# Altium integrated library SAMTEC-FTS-103-01-X-S.IntLib: 1 symbol
Pins are listed as number, name and electrical type; pins without a type are passive.

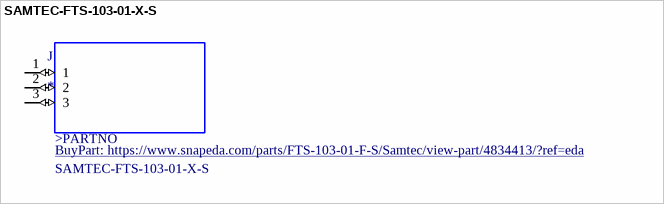
[diagram p0: symbol SAMTEC-FTS-103-01-X-S]

## SAMTEC-FTS-103-01-X-S
designator J
Connector Header Surface Mount 3 position 0.050 (1.27mm); MF: Samtec; MP: FTS-103-01-F-S; Availability: Bad; Value: *; Toby_UK-Purchase-URL: https://snapeda.com/shop?store=Toby+UK&id=4834413; SnapEDA_Link: https://www.snapeda.com/parts/FTS-103-01-F-S/Samtec/view-part/4834413/?ref=snap; Price: None; Package: None; BuyPart: https://www.snapeda.com/parts/FTS-103-01-F-S/Samtec/view-part/4834413/?ref=eda
footprint SAMTEC-FTS-103-01-X-S
pins: 1 (io), 2 (io), 3 (io)
text: >PARTNO